# EAGLE library part NE555DR (library cpsmv)
PRECISION TIMERS
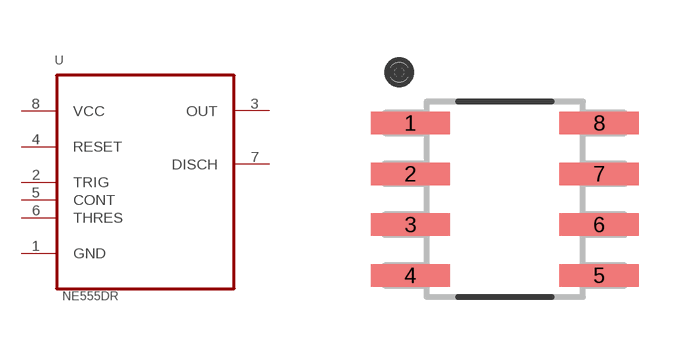
[diagram p8: symbol with the pads of SOIC127P600X175-8N; footprint SOIC127P600X175-8N]

Designator prefix U

## NE555DR (DATASHEET_LINK: http://www.ti.com/lit/ds/symlink/ne555.pdf; MANUFACTURER: Texas Instruments; MANUFACTURER_PN: NE555DR; PACKAGE: SOIC-8; SUPPLIER: Digi-Key; SUPPLIER_PN: 296-6501-1-ND)  [SOIC127P600X175-8N]
1  GND  pas
2  TRIG  in
3  OUT  out
4  RESET  in
5  CONT  in
6  THRES  in
7  DISCH  out
8  VCC  pwr

## Footprint SOIC127P600X175-8N (pad centres in mm)
smd 1.981 x 0.559: 1 -2.362,1.905; 2 -2.362,0.635; 3 -2.362,-0.635; 4 -2.362,-1.905; 5 2.362,-1.905; 6 2.362,-0.635; 7 2.362,0.635; 8 2.362,1.905